# EAGLE library part STM32WB55CGU6 (library STM32WB55CGU6)
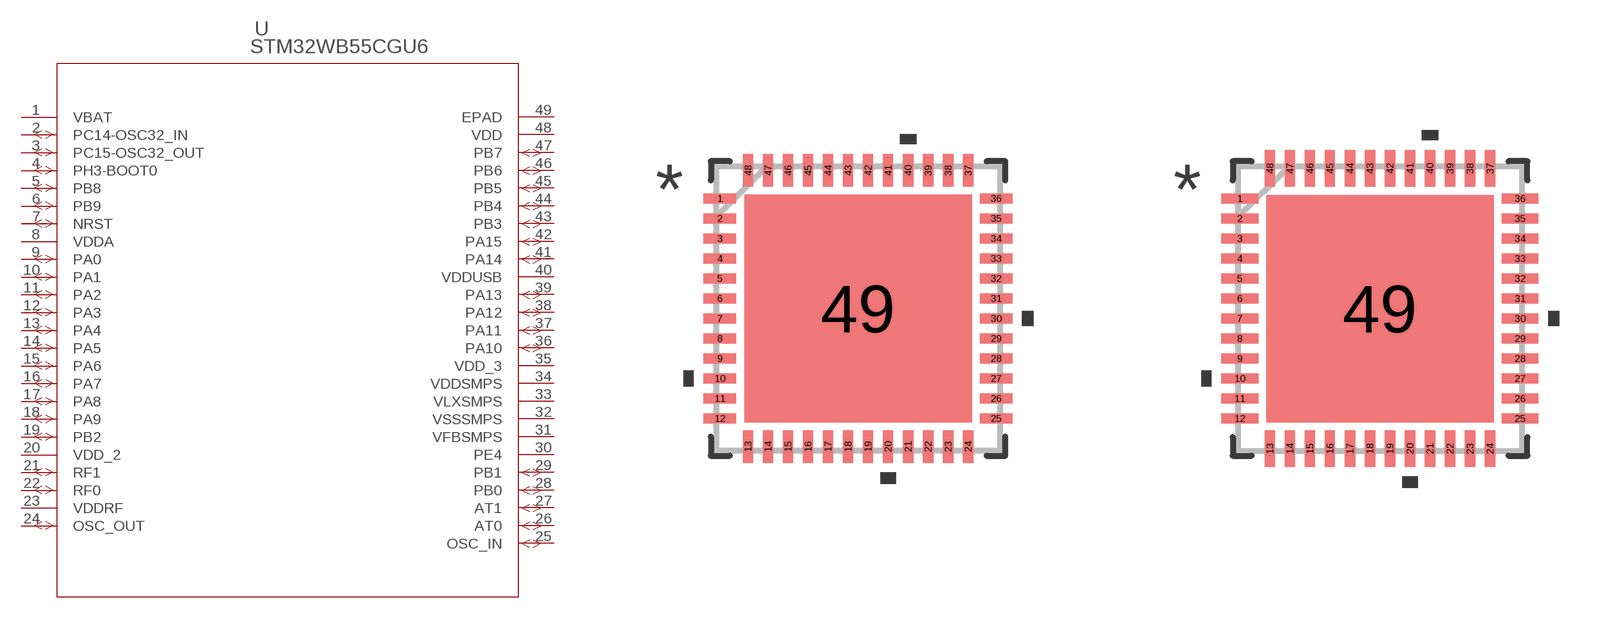
[diagram p0: symbol with the pads of UFQFPN48_A0B9_STM; footprints UFQFPN48_A0B9_STM, UFQFPN48_A0B9_STM-M]

Designator prefix U

## STM32WB55CGU6UFQFPN48_A0B9_STM (Copyright: Copyright (C) 2025 Ultra Librarian. All rights reserved.; Datasheet: https://www.st.com/resource/en/datasheet/stm32wb55cc.pdf; Description: Ultra-low-power dual core Arm Cortex-M4 MCU 64 MHz, Cortex-M0+ 32 MHz with 1 Mbyte of Flash memory, Bluetooth LE 5.4, 802.15.4, Zigbee, Thread, Matter, USB, LCD, AES-256; Manufacturer_Name: STMicroelectronics; Manufacturer_Part_Number: STM32WB55CGU6)  [UFQFPN48_A0B9_STM]
1  VBAT  pwr
2  PC14-OSC32_IN
3  PC15-OSC32_OUT
4  PH3-BOOT0
5  PB8
6  PB9
7  NRST
8  VDDA  pwr
9  PA0
10  PA1
11  PA2
12  PA3
13  PA4
14  PA5
15  PA6
16  PA7
17  PA8
18  PA9
19  PB2
20  VDD_2  pwr
21  RF1
22  RF0
23  VDDRF  pwr
24  OSC_OUT
25  OSC_IN
26  AT0
27  AT1
28  PB0
29  PB1
30  PE4  pwr
31  VFBSMPS  pwr
32  VSSSMPS  pwr
33  VLXSMPS  pwr
34  VDDSMPS  pwr
35  VDD_3  pwr
36  PA10
37  PA11
38  PA12
39  PA13
40  VDDUSB  pwr
41  PA14
42  PA15
43  PB3
44  PB4
45  PB5
46  PB6
47  PB7
48  VDD  pwr
49  EPAD  pas

## STM32WB55CGU6UFQFPN48_A0B9_STM-M (Copyright: Copyright (C) 2025 Ultra Librarian. All rights reserved.; Datasheet: https://www.st.com/resource/en/datasheet/stm32wb55cc.pdf; Description: Ultra-low-power dual core Arm Cortex-M4 MCU 64 MHz, Cortex-M0+ 32 MHz with 1 Mbyte of Flash memory, Bluetooth LE 5.4, 802.15.4, Zigbee, Thread, Matter, USB, LCD, AES-256; Manufacturer_Name: STMicroelectronics; Manufacturer_Part_Number: STM32WB55CGU6)  [UFQFPN48_A0B9_STM-M]
Pads as for UFQFPN48_A0B9_STM

## STM32WB55CGU6UFQFPN48_A0B9_STM-L (Copyright: Copyright (C) 2025 Ultra Librarian. All rights reserved.; Datasheet: https://www.st.com/resource/en/datasheet/stm32wb55cc.pdf; Description: Ultra-low-power dual core Arm Cortex-M4 MCU 64 MHz, Cortex-M0+ 32 MHz with 1 Mbyte of Flash memory, Bluetooth LE 5.4, 802.15.4, Zigbee, Thread, Matter, USB, LCD, AES-256; Manufacturer_Name: STMicroelectronics; Manufacturer_Part_Number: STM32WB55CGU6)  [UFQFPN48_A0B9_STM-L]
Pads as for UFQFPN48_A0B9_STM

## Footprint UFQFPN48_A0B9_STM (pad centres in mm)
smd 0.813 x 0.254: 1 -3.454,2.752; 2 -3.454,2.252; 3 -3.454,1.751; 4 -3.454,1.251; 5 -3.454,0.751; 6 -3.454,0.25; 7 -3.454,-0.25; 8 -3.454,-0.751; 9 -3.454,-1.251; 10 -3.454,-1.751; 11 -3.454,-2.252; 12 -3.454,-2.752; 25 3.454,-2.752; 26 3.454,-2.252; 27 3.454,-1.751; 28 3.454,-1.251; 29 3.454,-0.751; 30 3.454,-0.25; 31 3.454,0.25; 32 3.454,0.751; 33 3.454,1.251; 34 3.454,1.751; 35 3.454,2.252; 36 3.454,2.752
smd 0.254 x 0.813: 13 -2.752,-3.454; 14 -2.252,-3.454; 15 -1.751,-3.454; 16 -1.251,-3.454; 17 -0.751,-3.454; 18 -0.25,-3.454; 19 0.25,-3.454; 20 0.751,-3.454; 21 1.251,-3.454; 22 1.751,-3.454; 23 2.252,-3.454; 24 2.752,-3.454; 37 2.752,3.454; 38 2.252,3.454; 39 1.751,3.454; 40 1.251,3.454; 41 0.751,3.454; 42 0.25,3.454; 43 -0.25,3.454; 44 -0.751,3.454; 45 -1.251,3.454; 46 -1.751,3.454; 47 -2.252,3.454; 48 -2.752,3.454
smd 5.69 x 5.69: 49 0,0

## Footprint UFQFPN48_A0B9_STM-M (pad centres in mm)
smd 0.914 x 0.254: 1 -3.505,2.752; 2 -3.505,2.252; 3 -3.505,1.751; 4 -3.505,1.251; 5 -3.505,0.751; 6 -3.505,0.25; 7 -3.505,-0.25; 8 -3.505,-0.751; 9 -3.505,-1.251; 10 -3.505,-1.751; 11 -3.505,-2.252; 12 -3.505,-2.752; 25 3.505,-2.752; 26 3.505,-2.252; 27 3.505,-1.751; 28 3.505,-1.251; 29 3.505,-0.751; 30 3.505,-0.25; 31 3.505,0.25; 32 3.505,0.751; 33 3.505,1.251; 34 3.505,1.751; 35 3.505,2.252; 36 3.505,2.752
smd 0.254 x 0.914: 13 -2.752,-3.505; 14 -2.252,-3.505; 15 -1.751,-3.505; 16 -1.251,-3.505; 17 -0.751,-3.505; 18 -0.25,-3.505; 19 0.25,-3.505; 20 0.751,-3.505; 21 1.251,-3.505; 22 1.751,-3.505; 23 2.252,-3.505; 24 2.752,-3.505; 37 2.752,3.505; 38 2.252,3.505; 39 1.751,3.505; 40 1.251,3.505; 41 0.751,3.505; 42 0.25,3.505; 43 -0.25,3.505; 44 -0.751,3.505; 45 -1.251,3.505; 46 -1.751,3.505; 47 -2.252,3.505; 48 -2.752,3.505
smd 5.69 x 5.69: 49 0,0

## Footprint UFQFPN48_A0B9_STM-L (pad centres in mm)
smd 0.711 x 0.254: 1 -3.404,2.752; 2 -3.404,2.252; 3 -3.404,1.751; 4 -3.404,1.251; 5 -3.404,0.751; 6 -3.404,0.25; 7 -3.404,-0.25; 8 -3.404,-0.751; 9 -3.404,-1.251; 10 -3.404,-1.751; 11 -3.404,-2.252; 12 -3.404,-2.752; 25 3.404,-2.752; 26 3.404,-2.252; 27 3.404,-1.751; 28 3.404,-1.251; 29 3.404,-0.751; 30 3.404,-0.25; 31 3.404,0.25; 32 3.404,0.751; 33 3.404,1.251; 34 3.404,1.751; 35 3.404,2.252; 36 3.404,2.752
smd 0.254 x 0.711: 13 -2.752,-3.404; 14 -2.252,-3.404; 15 -1.751,-3.404; 16 -1.251,-3.404; 17 -0.751,-3.404; 18 -0.25,-3.404; 19 0.25,-3.404; 20 0.751,-3.404; 21 1.251,-3.404; 22 1.751,-3.404; 23 2.252,-3.404; 24 2.752,-3.404; 37 2.752,3.404; 38 2.252,3.404; 39 1.751,3.404; 40 1.251,3.404; 41 0.751,3.404; 42 0.25,3.404; 43 -0.25,3.404; 44 -0.751,3.404; 45 -1.251,3.404; 46 -1.751,3.404; 47 -2.252,3.404; 48 -2.752,3.404
smd 5.69 x 5.69: 49 0,0